# Altium footprint library RESC0502X023.PcbLib: 3 footprints
Each footprint in its own frame and in the unit in brackets; x right, y up, seen from the top. Pads: shape width x height; smd on the part's side, far side on the other; paste and mask are expansions set on the pad; w line width, h text height; cw(c..) or ccw(c..) is an arc to the next point about the centre after c.
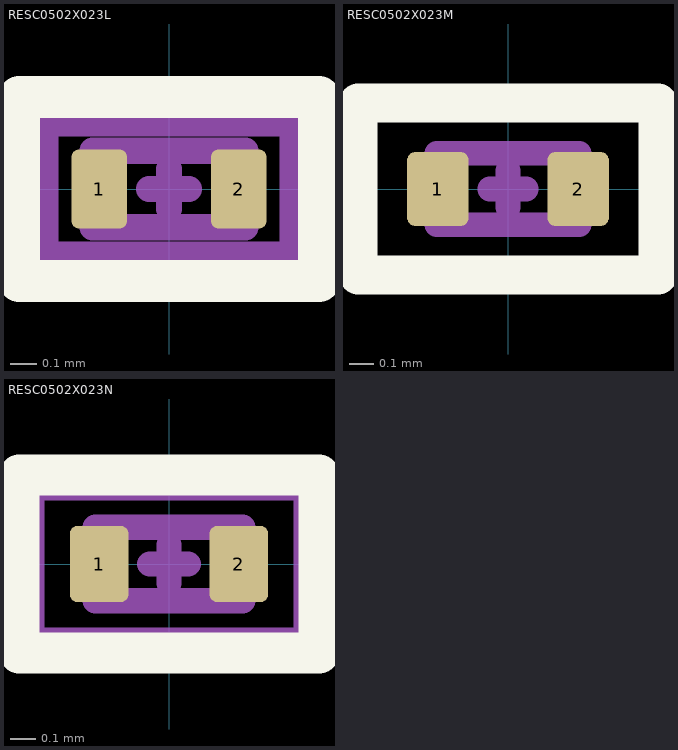
[diagram p0: the footprints below, top view; thin cyan lines are the x and y axes]

## RESC0502X023L [mm] "Resistors, Chip"
height 0.28
pads (2):
  rrect25% 0.21x0.3 smd: 1(-0.265,0) 2(0.265,0)
Top Overlay:
  lines w0.16: -0.57,-0.35 0.57,-0.35 0.57,0.35 -0.57,0.35 -0.57,-0.35
Top Component Center:
  lines w0.1: -0.075,0 0.075,0 ; 0,-0.075 0,0.075
Top Courtyard:
  lines w0.1: -0.47,-0.25 0.47,-0.25 0.47,0.25 -0.47,0.25 -0.47,-0.25
Top Assembly:
  lines w0.1: -0.29,-0.145 0.29,-0.145 0.29,0.145 -0.29,0.145 -0.29,-0.145
  text ".Designator" at 0,0 h1
3D body "RESC0502X023L.STEP": height 0.23, standoff 0, extent -0.29,-0.145 0.29,0.145

## RESC0502X023M [mm] "Resistors, Chip"
height 0.28
pads (2):
  rrect25% 0.25x0.3 smd: 1(-0.285,0) 2(0.285,0)
Top Overlay:
  lines w0.16: -0.61,-0.35 0.61,-0.35 0.61,0.35 -0.61,0.35 -0.61,-0.35
Top Component Center:
  lines w0.1: -0.075,0 0.075,0 ; 0,-0.075 0,0.075
Top Courtyard:
  lines w0.1: -0.61,-0.35 0.61,-0.35 0.61,0.35 -0.61,0.35 -0.61,-0.35
Top Assembly:
  lines w0.1: -0.29,-0.145 0.29,-0.145 0.29,0.145 -0.29,0.145 -0.29,-0.145
  text ".Designator" at 0,0 h1
3D body "RESC0502X023M.STEP": height 0.23, standoff 0, extent -0.29,-0.145 0.29,0.145

## RESC0502X023N [mm] "Resistors, Chip"
height 0.28
pads (2):
  rrect25% 0.23x0.3 smd: 1(-0.275,0) 2(0.275,0)
Top Overlay:
  lines w0.16: -0.59,-0.35 0.59,-0.35 0.59,0.35 -0.59,0.35 -0.59,-0.35
Top Component Center:
  lines w0.1: -0.075,0 0.075,0 ; 0,-0.075 0,0.075
Top Courtyard:
  lines w0.1: -0.54,-0.3 0.54,-0.3 0.54,0.3 -0.54,0.3 -0.54,-0.3
Top Assembly:
  lines w0.1: -0.29,-0.145 0.29,-0.145 0.29,0.145 -0.29,0.145 -0.29,-0.145
  text ".Designator" at 0,0 h1
3D body "RESC0502X023N.STEP": height 0.23, standoff 0, extent -0.29,-0.145 0.29,0.145